# EAGLE library part SIM900-TE (library SIM Com)
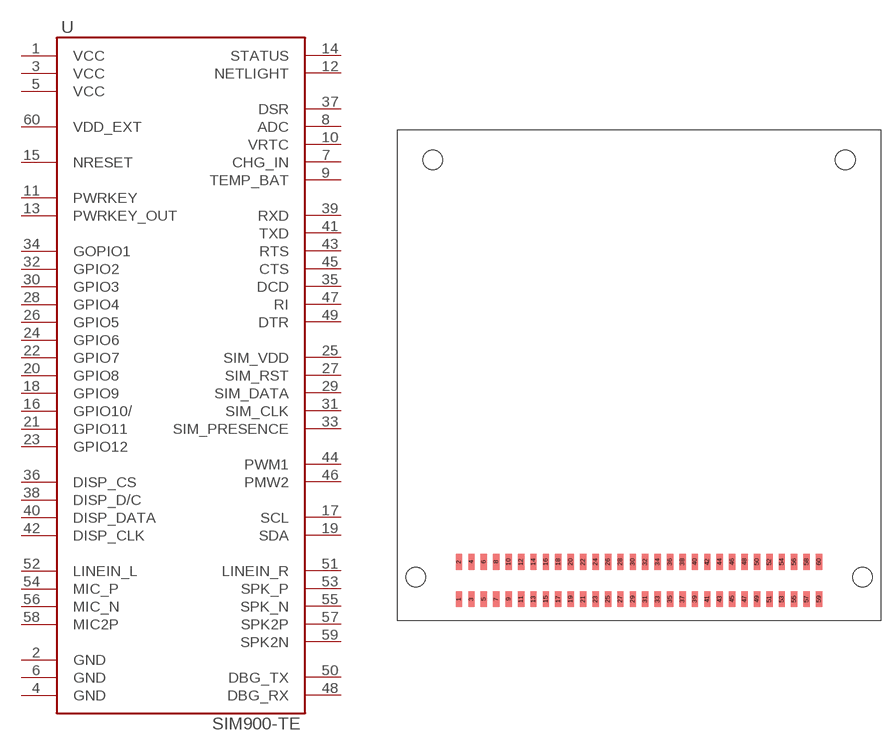
[diagram p0: symbol with the pads of SIM900-TE; footprint SIM900-TE]

Designator prefix -

## SIM900-TE  [SIM900-TE]
1  VCC
2  GND
3  VCC
4  GND
5  VCC
6  GND
7  CHG_IN
8  ADC
9  TEMP_BAT
10  VRTC
11  PWRKEY
12  NETLIGHT
13  PWRKEY_OUT
14  STATUS
15  NRESET
16  GPIO10/
17  SCL
18  GPIO9
19  SDA
20  GPIO8
21  GPIO11
22  GPIO7
23  GPIO12
24  GPIO6
25  SIM_VDD
26  GPIO5
27  SIM_RST
28  GPIO4
29  SIM_DATA
30  GPIO3
31  SIM_CLK
32  GPIO2
33  SIM_PRESENCE
34  GOPIO1
35  DCD
36  DISP_CS
37  DSR
38  DISP_D/C
39  RXD
40  DISP_DATA
41  TXD
42  DISP_CLK
43  RTS
44  PWM1
45  CTS
46  PMW2
47  RI
48  DBG_RX
49  DTR
50  DBG_TX
51  LINEIN_R
52  LINEIN_L
53  SPK_P
54  MIC_P
55  SPK_N
56  MIC_N
57  SPK2P
58  MIC2P
59  SPK2N
60  VDD_EXT

## Footprint SIM900-TE (pad centres in mm)
smd 0.65 x 1.6: 1 -18.415,-1.905; 2 -18.415,1.905; 3 -17.145,-1.905; 4 -17.145,1.905; 5 -15.875,-1.905; 6 -15.875,1.905; 7 -14.605,-1.905; 8 -14.605,1.905; 9 -13.335,-1.905; 10 -13.335,1.905; 11 -12.065,-1.905; 12 -12.065,1.905; 13 -10.795,-1.905; 14 -10.795,1.905; 15 -9.525,-1.905; 16 -9.525,1.905; 17 -8.255,-1.905; 18 -8.255,1.905; 19 -6.985,-1.905; 20 -6.985,1.905; 21 -5.715,-1.905; 22 -5.715,1.905; 23 -4.445,-1.905; 24 -4.445,1.905; 25 -3.175,-1.905; 26 -3.175,1.905; 27 -1.905,-1.905; 28 -1.905,1.905; 29 -0.635,-1.905; 30 -0.635,1.905; 31 0.635,-1.905; 32 0.635,1.905; 33 1.905,-1.905; 34 1.905,1.905; 35 3.175,-1.905; 36 3.175,1.905; 37 4.445,-1.905; 38 4.445,1.905; 39 5.715,-1.905; 40 5.715,1.905; 41 6.985,-1.905; 42 6.985,1.905; 43 8.255,-1.905; 44 8.255,1.905; 45 9.525,-1.905; 46 9.525,1.905; 47 10.795,-1.905; 48 10.795,1.905; 49 12.065,-1.905; 50 12.065,1.905; 51 13.335,-1.905; 52 13.335,1.905; 53 14.605,-1.905; 54 14.605,1.905; 55 15.875,-1.905; 56 15.875,1.905; 57 17.145,-1.905; 58 17.145,1.905; 59 18.415,-1.905; 60 18.415,1.905
hole 2 at -22.85,0.365
hole 2 at 22.85,0.365
hole 2 at -21.1,43.045
hole 2 at 21.1,43.045